# Altium schematic symbol library SnapEDAsch.SchLib: 1 symbol
Pins are listed as number, name and electrical type; pins without a type are passive.

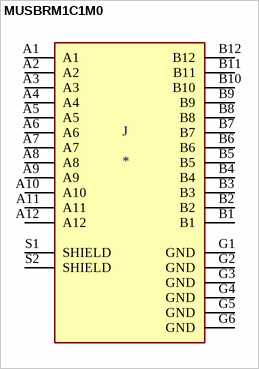
[diagram p0: symbol MUSBRM1C1M0]

## MUSBRM1C1M0
designator J
USB-C _USB TYPE-C_ Receptacle Connector 24 Position Panel Mount, Through Hole, Right Angle; MF: Amphenol ICC; MP: MUSBRM1C1M0; SnapEDA_Link: https://www.snapeda.com/parts/MUSBRM1C1M0/Amphenol%20FCI/view-part/3662036/?ref=snap; Price: None; Value: *; Availability: Unavailable; Package: None
footprint AMPHENOL_MUSBRM1C1M0
pins: A1, A2, A3, A4, A5, A6, A7, A8, A9, A10, A11, A12, B1, B2, B3, B4, B5, B6, B7, B8, B9, B10, B11, B12, G1 GND (power), G2 GND (power), G3 GND (power), G4 GND (power), G5 GND (power), G6 GND (power), S1 SHIELD, S2 SHIELD